# Altium schematic symbol library ALLWINNER D1.SchLib: 2 symbols
Pins are listed as number, name and electrical type; pins without a type are passive.

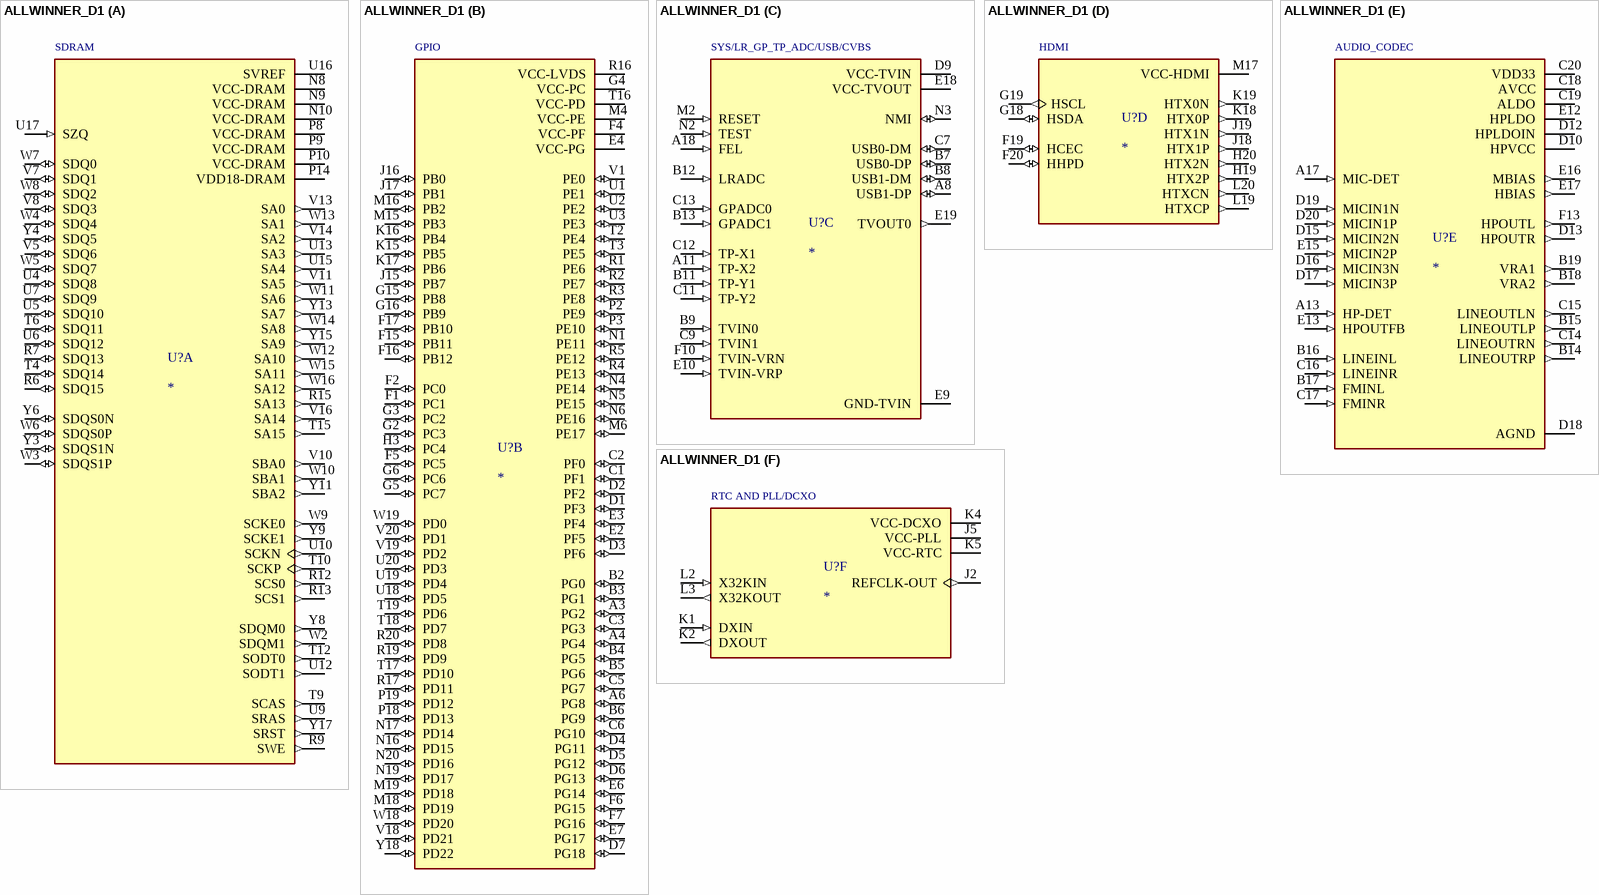
[diagram p0: symbol ALLWINNER_D1]

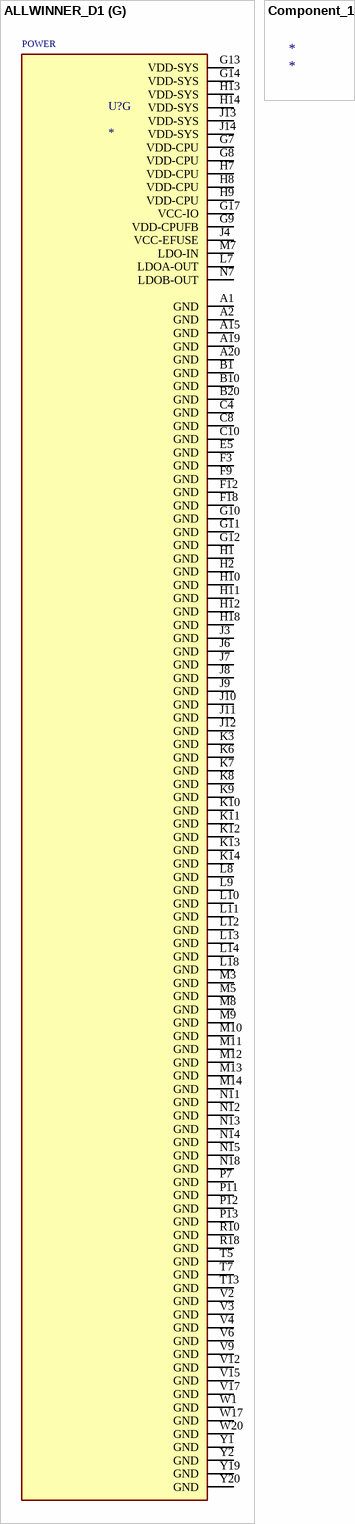
[diagram p1: symbols ALLWINNER_D1 to Component_1]

## ALLWINNER_D1
designator U?
MF: {'manufacturer': u'Allwinner Technology'}; MP: ALLWINNER_D1; Value: *; Availability: Unavailable; Price: None; Package: None
footprint BGA337C65P20X20_1300X1300X133
part A pins: N8 VCC-DRAM (power), N9 VCC-DRAM (power), N10 VCC-DRAM (power), P8 VCC-DRAM (power), P9 VCC-DRAM (power), P10 VCC-DRAM (power), P14 VDD18-DRAM (power), R6 SDQ15 (io), R7 SDQ13 (io), R9 SWE (out), R12 SCS0 (out), R13 SCS1 (out), R15 SA13 (out), T4 SDQ14 (io), T6 SDQ11 (io), T9 SCAS (out), T10 SCKP (out), T12 SODT0 (out), T15 SA15 (out), U4 SDQ8 (io), U5 SDQ10 (io), U6 SDQ12 (io), U7 SDQ9 (io), U9 SRAS (out), U10 SCKN (out), U12 SODT1 (out), U13 SA3 (out), U15 SA4 (out), U16 SVREF (power), U17 SZQ (in), V5 SDQ6 (io), V7 SDQ1 (io), V8 SDQ3 (io), V10 SBA0 (out), V11 SA5 (out), V13 SA0 (out), V14 SA2 (out), V16 SA14 (out), W2 SDQM1 (out), W3 SDQS1P (io), W4 SDQ4 (io), W5 SDQ7 (io), W6 SDQS0P (io), W7 SDQ0 (io), W8 SDQ2 (io), W9 SCKE0 (out), W10 SBA1 (out), W11 SA6 (out), W12 SA10 (out), W13 SA1 (out), W14 SA8 (out), W15 SA11 (out), W16 SA12 (out), Y3 SDQS1N (io), Y4 SDQ5 (io), Y6 SDQS0N (io), Y8 SDQM0 (out), Y9 SCKE1 (out), Y11 SBA2 (out), Y13 SA7 (out), Y15 SA9 (out), Y17 SRST (out)
part B pins: A3 PG2 (io), A4 PG4 (io), A6 PG8 (io), B2 PG0 (io), B3 PG1 (io), B4 PG5 (io), B5 PG6 (io), B6 PG9 (io), C1 PF1 (io), C2 PF0 (io), C3 PG3 (io), C5 PG7 (io), C6 PG10 (io), D1 PF3 (io), D2 PF2 (io), D3 PF6 (io), D4 PG11 (io), D5 PG12 (io), D6 PG13 (io), D7 PG18 (io), E2 PF5 (io), E3 PF4 (io), E4 VCC-PG (power), E6 PG14 (io), E7 PG17 (io), F1 PC1 (io), F2 PC0 (io), F4 VCC-PF (power), F5 PC5 (io), F6 PG15 (io), F7 PG16 (io), F15 PB11 (io), F16 PB12 (io), F17 PB10 (io), G2 PC3 (io), G3 PC2 (io), G4 VCC-PC (power), G5 PC7 (io), G6 PC6 (io), G15 PB8 (io), G16 PB9 (io), H3 PC4 (io), J15 PB7 (io), J16 PB0 (io), J17 PB1 (io), K15 PB5 (io), K16 PB4 (io), K17 PB6 (io), M4 VCC-PE (power), M6 PE17 (io), M15 PB3 (io), M16 PB2 (io), M18 PD19 (io), M19 PD18 (io), N1 PE11 (io), N4 PE14 (io), N5 PE15 (io), N6 PE16 (io), N16 PD15 (io), N17 PD14 (io), N19 PD17 (io), N20 PD16 (io), P2 PE9 (io), P3 PE10 (io), P18 PD13 (io), P19 PD12 (io), R1 PE6 (io), R2 PE7 (io), R3 PE8 (io), R4 PE13 (io), R5 PE12 (io), R16 VCC-LVDS (power), R17 PD11 (io), R19 PD9 (io), R20 PD8 (io), T2 PE4 (io), T3 PE5 (io), T16 VCC-PD (power), T17 PD10 (io), T18 PD7 (io), T19 PD6 (io), U1 PE1 (io), U2 PE2 (io), U3 PE3 (io), U18 PD5 (io), U19 PD4 (io), U20 PD3 (io), V1 PE0 (io), V18 PD21 (io), V19 PD2 (io), V20 PD1 (io), W18 PD20 (io), W19 PD0 (io), Y18 PD22 (io)
part C pins: A8 USB1-DP (io), A11 TP-X2 (in), A18 FEL (in), B7 USB0-DP (io), B8 USB1-DM (io), B9 TVIN0 (in), B11 TP-Y1 (in), B12 LRADC (in), B13 GPADC1 (in), C7 USB0-DM (io), C9 TVIN1 (in), C11 TP-Y2 (in), C12 TP-X1 (in), C13 GPADC0 (in), D9 VCC-TVIN (power), E9 GND-TVIN (power), E10 TVIN-VRP (in), E18 VCC-TVOUT (power), E19 TVOUT0 (out), F10 TVIN-VRN (in), M2 RESET (in), N2 TEST (in), N3 NMI (io)
part D pins: F19 HCEC (io), F20 HHPD (io), G18 HSDA (io), G19 HSCL (out), H19 HTX2P (out), H20 HTX2N (out), J18 HTX1P (out), J19 HTX1N (out), K18 HTX0P (out), K19 HTX0N (out), L19 HTXCP (out), L20 HTXCN (out), M17 VCC-HDMI (power)
part E pins: A13 HP-DET (in), A17 MIC-DET (in), B14 LINEOUTRP (out), B15 LINEOUTLP (out), B16 LINEINL (in), B17 FMINL (in), B18 VRA2 (out), B19 VRA1 (out), C14 LINEOUTRN (out), C15 LINEOUTLN (out), C16 LINEINR (in), C17 FMINR (in), C18 AVCC (power), C19 ALDO (power), C20 VDD33 (power), D10 HPVCC (power), D12 HPLDOIN (power), D13 HPOUTR (out), D15 MICIN2N (in), D16 MICIN3N (in), D17 MICIN3P (in), D18 AGND (power), D19 MICIN1N (in), D20 MICIN1P (in), E12 HPLDO (power), E13 HPOUTFB (in), E15 MICIN2P (in), E16 MBIAS (out), E17 HBIAS (out), F13 HPOUTL (out)
part F pins: J2 REFCLK-OUT (out), J5 VCC-PLL (power), K1 DXIN (in), K2 DXOUT (out), K4 VCC-DCXO (power), K5 VCC-RTC (power), L2 X32KIN (in), L3 X32KOUT (out)
part G pins: A1 GND (power), A2 GND (power), A15 GND (power), A19 GND (power), A20 GND (power), B1 GND (power), B10 GND (power), B20 GND (power), C4 GND (power), C8 GND (power), C10 GND (power), E5 GND (power), F3 GND (power), F9 GND (power), F12 GND (power), F18 GND (power), G7 VDD-CPU (power), G8 VDD-CPU (power), G9 VDD-CPUFB (power), G10 GND (power), G11 GND (power), G12 GND (power), G13 VDD-SYS (power), G14 VDD-SYS (power), G17 VCC-IO (power), H1 GND (power), H2 GND (power), H7 VDD-CPU (power), H8 VDD-CPU (power), H9 VDD-CPU (power), H10 GND (power), H11 GND (power), H12 GND (power), H13 VDD-SYS (power), H14 VDD-SYS (power), H18 GND (power), J3 GND (power), J4 VCC-EFUSE (power), J6 GND (power), J7 GND (power), J8 GND (power), J9 GND (power), J10 GND (power), J11 GND (power), J12 GND (power), J13 VDD-SYS (power), J14 VDD-SYS (power), K3 GND (power), K6 GND (power), K7 GND (power), K8 GND (power), K9 GND (power), K10 GND (power), K11 GND (power), K12 GND (power), K13 GND (power), K14 GND (power), L7 LDOA-OUT (power), L8 GND (power), L9 GND (power), L10 GND (power), L11 GND (power), L12 GND (power), L13 GND (power), L14 GND (power), L18 GND (power), M3 GND (power), M5 GND (power), M7 LDO-IN (power), M8 GND (power), M9 GND (power), M10 GND (power), M11 GND (power), M12 GND (power), M13 GND (power), M14 GND (power), N7 LDOB-OUT (power), N11 GND (power), N12 GND (power), N13 GND (power), N14 GND (power), N15 GND (power), N18 GND (power), P7 GND (power), P11 GND (power), P12 GND (power), P13 GND (power), R10 GND (power), R18 GND (power), T5 GND (power), T7 GND (power), T13 GND (power), V2 GND (power), V3 GND (power), V4 GND (power), V6 GND (power), V9 GND (power), V12 GND (power), V15 GND (power), V17 GND (power), W1 GND (power), W17 GND (power), W20 GND (power), Y1 GND (power), Y2 GND (power), Y19 GND (power), Y20 GND (power)
part A text: SDRAM
part B text: GPIO
part C text: SYS/LR_GP_TP_ADC/USB/CVBS
part D text: HDMI
part E text: AUDIO_CODEC
part F text: RTC AND PLL/DCXO
part G text: POWER

## Component_1
designator *